# EAGLE library part 749010013 (library Wurth Electronics Midcom Inc V1-0)
Package Style: LAN 100BT 1 Port ETR Mounting: SMD Pins: 16 pins Header: 068-0022 Windings Primary: Aux: Secondary: Best pinouts for production vary per application. Please contact Wurth Electronics Midcom, Inc. for assistance with your custom design. Datasheet: 749010013 <http://www.we-online.com/web/en/index.php/show/media/passive_components_-_custom_magnetics/pdf_doc_files/spec_sheets/7490/000-7090-37R-LF1.pdf> Website: Wurth Electronics Midcom <http://www.we-online.com/midcom> Contact us Wurth Electronics Midcom, Inc. 121 Airport Dr. Watertown, SD 57201 Phone: (605) 886-4385 Fax: (605) 886-4486 E-Mail: midcom@we-online.com
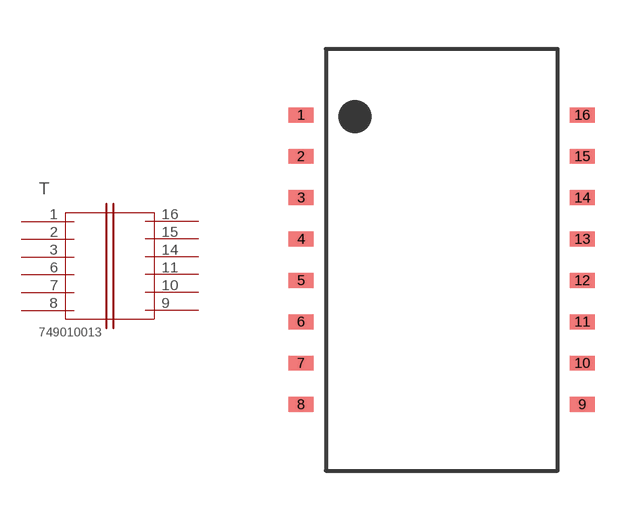
[diagram p141: symbol with the pads of 749010013; footprint 749010013]

Designator prefix T

## 749010013  [749010013]
1  1  pas
2  2  pas
3  3  pas
6  4  pas
7  5  pas
8  6  pas
9  12  pas
10  11  pas
11  10  pas
14  9  pas
15  7  pas
16  8  pas

## Footprint 749010013 (pad centres in mm)
Package Style: 100BT 1 Port ETR Mounting: SMD Pins: 16
smd 0.762 x 0.457: 1 -4.318,4.445; 2 -4.318,3.175; 3 -4.318,1.905; 4 -4.318,0.635; 5 -4.318,-0.635; 6 -4.318,-1.905; 7 -4.318,-3.175; 8 -4.318,-4.445; 9 4.318,-4.445; 10 4.318,-3.175; 11 4.318,-1.905; 12 4.318,-0.635; 13 4.318,0.635; 14 4.318,1.905; 15 4.318,3.175; 16 4.318,4.445